# Altium footprint library Sangjian_Pcb.PcbLib: 434 footprints (part 9 of 28)
Each footprint in its own frame and in the unit in brackets; x right, y up, seen from the top. Pads: shape width x height; smd on the part's side, far side on the other; paste and mask are expansions set on the pad; w line width, h text height; cw(c..) or ccw(c..) is an arc to the next point about the centre after c.
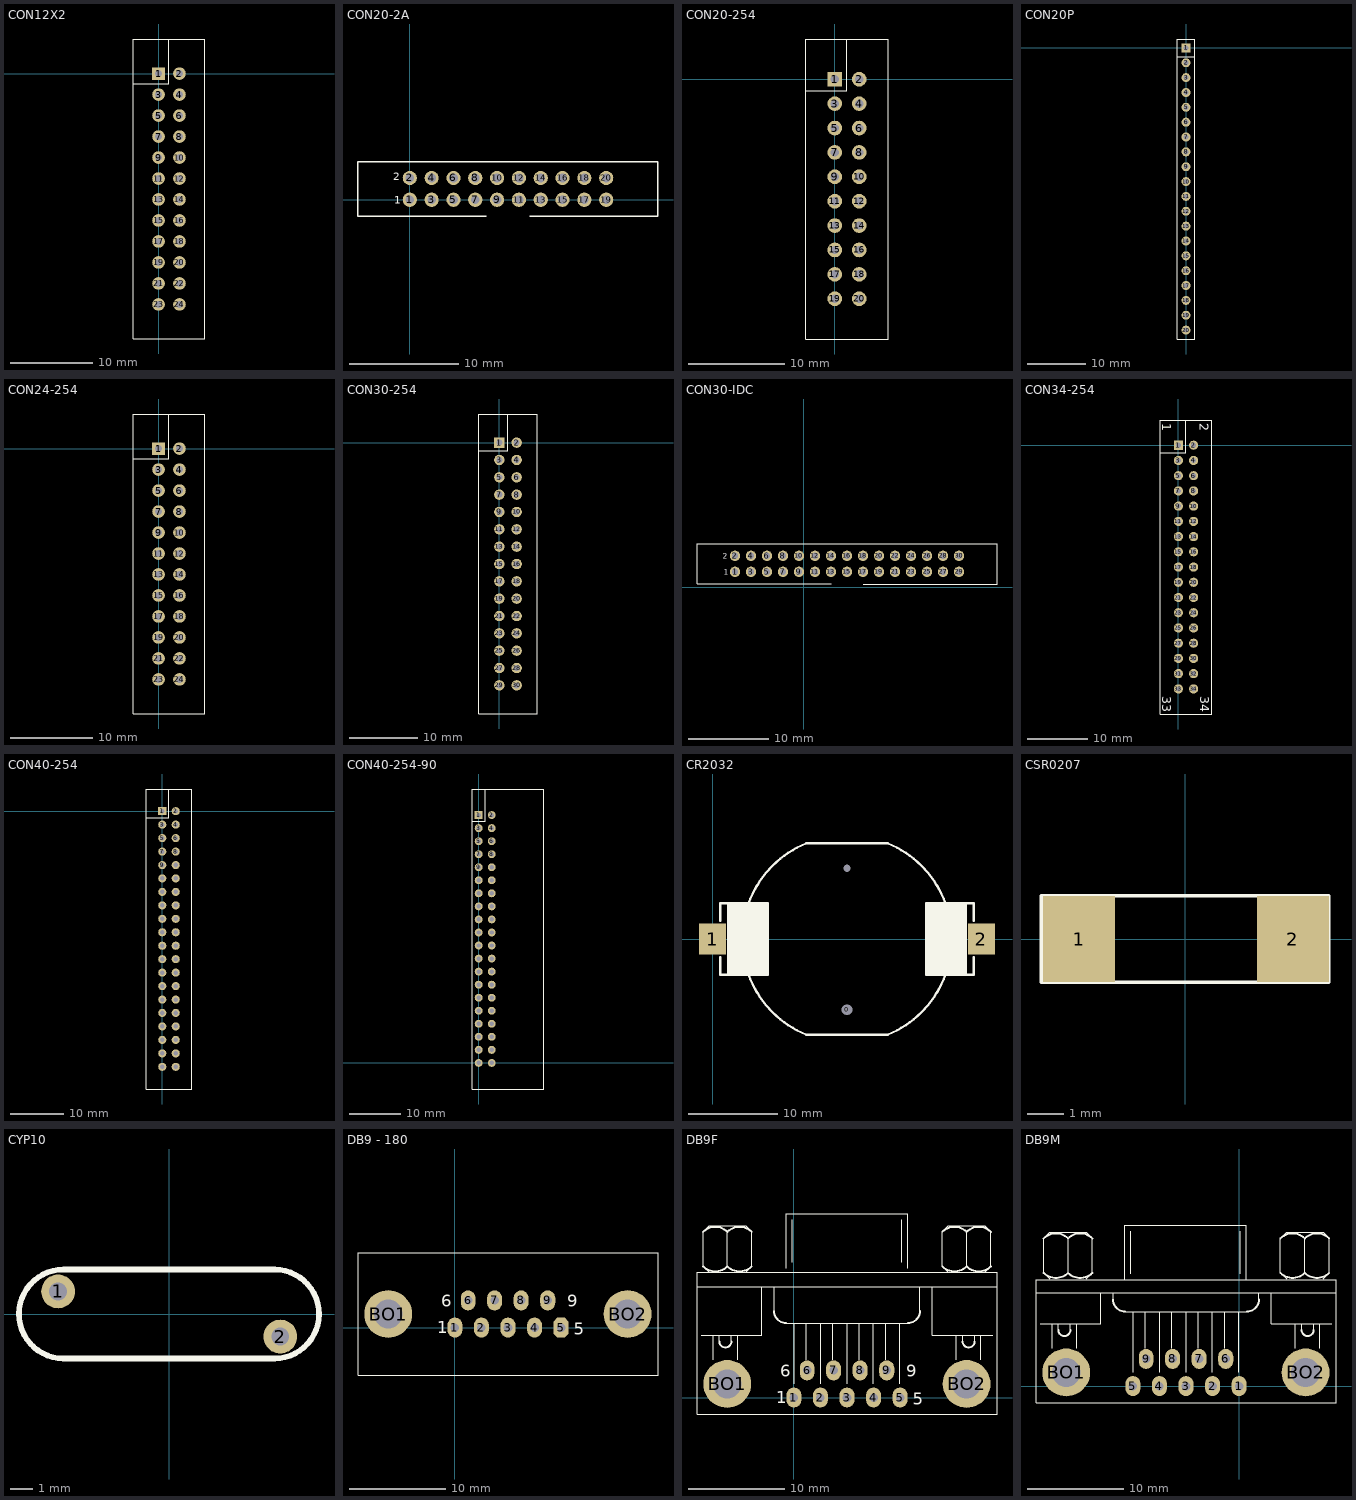
[diagram p8: the footprints below, top view; thin cyan lines are the x and y axes]

## CON12X2 [mil]
pads (24):
  rect 60x60 hole 34: 1(0,0)
  round 60 hole 34: 2(100,0) 3(0,-100) 4(100,-100) 5(0,-200) 6(100,-200) 7(0,-300) 8(100,-300) 9(0,-400) 10(100,-400) 11(0,-500) 12(100,-500) 13(0,-600) 14(100,-600) 15(0,-700) 16(100,-700) 17(0,-800) 18(100,-800) 19(0,-900) 20(100,-900) 21(0,-1000) 22(100,-1000) 23(0,-1100) 24(100,-1100)
Top Overlay:
  lines w5: -120,-48 49,-48 49,163 ; -120,-1265 -120,165 220,165 220,-1265 -120,-1265

## CON20-2A [mm]
pads (20):
  round 1.3 hole 0.8: 1(0,0) 2(0,2) 3(2,0) 4(2,2) 5(4,0) 6(4,2) 7(6,0) 8(6,2) 9(8,0) 10(8,2) 11(10,0) 12(10,2) 13(12,0) 14(12,2) 15(14,0) 16(14,2) 17(16,0) 18(16,2) 19(18,0) 20(18,2)
Top Overlay:
  lines w0.127: 7,-1.5 -4.75,-1.5 -4.75,3.5 22.75,3.5 22.75,-1.525 11,-1.525
  text "2" at -1.539,1.784 h0.7
  text "1" at -1.412,-0.375 h0.7

## CON20-254 [mil]
pads (20):
  rect 60x60 hole 34: 1(0,0)
  round 60 hole 34: 2(100,0) 3(0,-100) 4(100,-100) 5(0,-200) 6(100,-200) 7(0,-300) 8(100,-300) 9(0,-400) 10(100,-400) 11(0,-500) 12(100,-500) 13(0,-600) 14(100,-600) 15(0,-700) 16(100,-700) 17(0,-800) 18(100,-800) 19(0,-900) 20(100,-900)
Top Overlay:
  lines w5: -120,-48 49,-48 49,163 ; -120,-1065 -120,165 220,165 220,-1065 -120,-1065

## CON20P [mil]
pads (20):
  rect 60x60 hole 34: 1(0,0)
  round 60 hole 34: 2(0,-100) 3(0,-200) 4(0,-300) 5(0,-400) 6(0,-500) 7(0,-600) 8(0,-700) 9(0,-800) 10(0,-900) 11(0,-1000) 12(0,-1100) 13(0,-1200) 14(0,-1300) 15(0,-1400) 16(0,-1500) 17(0,-1600) 18(0,-1700) 19(0,-1800) 20(0,-1900)
Top Overlay:
  lines w5: -60,-60 60,-60 ; -60,-1960 60,-1960 60,60 -60,60 -60,-1960

## CON24-254 [mil]
pads (24):
  rect 60x60 hole 34: 1(0,0)
  round 60 hole 34: 2(100,0) 3(0,-100) 4(100,-100) 5(0,-200) 6(100,-200) 7(0,-300) 8(100,-300) 9(0,-400) 10(100,-400) 11(0,-500) 12(100,-500) 13(0,-600) 14(100,-600) 15(0,-700) 16(100,-700) 17(0,-800) 18(100,-800) 19(0,-900) 20(100,-900) 21(0,-1000) 22(100,-1000) 23(0,-1100) 24(100,-1100)
Top Overlay:
  lines w5: -120,-48 49,-48 49,163 ; -120,-1265 220,-1265 220,165 -120,165 -120,-1265

## CON30-254 [mil]
pads (30):
  rect 60x60 hole 34: 1(0,0)
  round 60 hole 34: 2(100,0) 3(0,-100) 4(100,-100) 5(0,-200) 6(100,-200) 7(0,-300) 8(100,-300) 9(0,-400) 10(100,-400) 11(0,-500) 12(100,-500) 13(0,-600) 14(100,-600) 15(0,-700) 16(100,-700) 17(0,-800) 18(100,-800) 19(0,-900) 20(100,-900) 21(0,-1000) 22(100,-1000) 23(0,-1100) 24(100,-1100) 25(0,-1200) 26(100,-1200) 27(0,-1300) 28(100,-1300) 29(0,-1400) 30(100,-1400)
Top Overlay:
  lines w5: -120,-48 49,-48 49,163 ; -120,-1565 220,-1565 220,165 -120,165 -120,-1565

## CON30-IDC [mm]
pads (30):
  round 1.3 hole 0.8: 1(-8.621,1.899) 2(-8.621,3.899) 3(-6.621,1.899) 4(-6.621,3.899) 5(-4.621,1.899) 6(-4.621,3.899) 7(-2.621,1.899) 8(-2.621,3.899) 9(-0.621,1.899) 10(-0.621,3.899) 11(1.379,1.899) 12(1.379,3.899) 13(3.379,1.899) 14(3.379,3.899) 15(5.379,1.899) 16(5.379,3.899) 17(7.379,1.899) 18(7.379,3.899) 19(9.379,1.899) 20(9.379,3.899) 21(11.379,1.899) 22(11.379,3.899) 23(13.379,1.899) 24(13.379,3.899) 25(15.379,1.899) 26(15.379,3.899) 27(17.379,1.899) 28(17.379,3.899) 29(19.379,1.899) 30(19.379,3.899)
Top Overlay:
  lines w0.127: 3.379,0.399 -13.371,0.399 -13.371,5.399 24.129,5.399 24.129,0.374 7.379,0.374
  text "2" at -10.16,3.556 h0.7
  text "1" at -10.033,1.524 h0.7

## CON34-254 [mil]
pads (34):
  rect 60x60 hole 34: 1(0,0)
  round 60 hole 34: 2(100,0) 3(0,-100) 4(100,-100) 5(0,-200) 6(100,-200) 7(0,-300) 8(100,-300) 9(0,-400) 10(100,-400) 11(0,-500) 12(100,-500) 13(0,-600) 14(100,-600) 15(0,-700) 16(100,-700) 17(0,-800) 18(100,-800) 19(0,-900) 20(100,-900) 21(0,-1000) 22(100,-1000) 23(0,-1100) 24(100,-1100) 25(0,-1200) 26(100,-1200) 27(0,-1300) 28(100,-1300) 29(0,-1400) 30(100,-1400) 31(0,-1500) 32(100,-1500) 33(0,-1600) 34(100,-1600)
Top Overlay:
  lines w5: -120,-48 49,-48 49,163 ; -120,-1765 220,-1765 220,-1565 220,165 -120,165 -120,-1565 -120,-1765
  text "2" at 140,145 h60
  text "34" at 145,-1650 h60
  text "33" at -105,-1650 h60
  text "1" at -105,145 h60

## CON40-254 [mil]
pads (40):
  rect 60x60 hole 34: 1(0,0)
  round 60 hole 34: 2(100,0) 3(0,-100) 4(100,-100) 5(0,-200) 6(100,-200) 7(0,-300) 8(100,-300) 9(0,-400) 10(100,-400) 11(0,-500) 12(100,-500) 13(0,-600) 14(100,-600) 15(0,-700) 16(100,-700) 17(0,-800) 18(100,-800) 19(0,-900) 20(100,-900) 21(0,-1000) 22(100,-1000) 23(0,-1100) 24(100,-1100) 25(0,-1200) 26(100,-1200) 27(0,-1300) 28(100,-1300) 29(0,-1400) 30(100,-1400) 31(0,-1500) 32(100,-1500) 33(0,-1600) 34(100,-1600) 35(0,-1700) 36(100,-1700) 37(0,-1800) 38(100,-1800) 39(0,-1900) 40(100,-1900)
Top Overlay:
  lines w5: -120,-48 49,-48 49,163 ; -120,-2065 220,-2065 220,165 -120,165 -120,-2065

## CON40-254-90 [mil]
pads (40):
  rect 60x60 hole 34: 1(0,1900)
  round 60 hole 34: 2(100,1900) 3(0,1800) 4(100,1800) 5(0,1700) 6(100,1700) 7(0,1600) 8(100,1600) 9(0,1500) 10(100,1500) 11(0,1400) 12(100,1400) 13(0,1300) 14(100,1300) 15(0,1200) 16(100,1200) 17(0,1100) 18(100,1100) 19(0,1000) 20(100,1000) 21(0,900) 22(100,900) 23(0,800) 24(100,800) 25(0,700) 26(100,700) 27(0,600) 28(100,600) 29(0,500) 30(100,500) 31(0,400) 32(100,400) 33(0,300) 34(100,300) 35(0,200) 36(100,200) 37(0,100) 38(100,100) 39(0,0) 40(100,0)
Top Overlay:
  lines w5: -50,1852 49,1852 49,2099.41 ; -50,-200 500,-200 500,2100 -50,2100 -50,-200

## CR2032 [mm]
pads (4):
  round 1 hole 1.2: 0(15,-7.9)
  round 0.5 hole 0.8: 0(15,7.9)
  rect 3x3.5 smd: 1(0,0) 2(30,0)
Top Overlay:
  rectangle: 1.589,-4.064 6.135,4
  rectangle: 23.865,-4.039 28.411,4
  lines w0.254: 0.85,-2 0.85,-4 4,-4 ; 0.85,2 0.85,4 4,4 ; 29.15,-2 29.15,-4 26,-4 ; 29.15,2 29.15,4 26,4 ; 4,-4 ccw(c14.891,0.05) 10.43,-10.679 19.57,-10.68 ccw(c15.109,0.05) 26,-4 ; 4,-4 6.135,-4 6.135,4 4,4 ; 4,4 cw(c14.891,-0.05) 10.43,10.679 19.57,10.68 cw(c15.109,-0.05) 26,4 ; 26,-4 23.865,-4 23.865,4 26,4

## CSR0207 [mm]
pads (2):
  rect 2x2.4 smd: 1(-2.946,0) 2(2.997,0)
Top Overlay:
  lines w0.1: -4,-1.2 4,-1.2 4,1.2 -4,1.2 -4,-1.2

## CYP10 [mil]
pads (2):
  round 60 hole 31.5: 1(-196.85,40) 2(196.85,-40)
Top Overlay:
  lines w10: -187.58,-78.74 cw(c-187.42,0) -186.85,78.74 186.85,78.74 cw(c186.69,0) 186.12,-78.74 ; -186.85,-78.74 186.85,-78.74

## DB9 - 180 [mil]
pads (11):
  oval 62x82 hole 35: 1(0,0) 2(109.17,0) 3(218.33,0) 4(327.5,0) 7(163.33,111.67) 8(272.5,111.67) 9(381.67,111.67)
  oct 62x82 hole 35: 5(436.67,0)
  oval 60x82 hole 35: 6(54.17,111.67)
  round 196.67 hole 118.33: BO1(-274.17,55.83) BO2(710,55.83)
Top Overlay:
  lines w5: -398.33,-196.14 -398.33,307.8 835,307.8 835,-196.14 -398.33,-196.14
  text "9" at 462.92,85.83 h50
  text "5" at 487.92,-29.17 h50
  text "1" at -72.08,-24.17 h50
  text "6" at -57.08,85.83 h50

## DB9F [mil]
pads (11):
  oval 62x82 hole 35: 1(0,0) 2(109.17,0) 3(218.33,0) 4(327.5,0) 5(436.67,0) 7(163.33,111.67) 8(272.5,111.67) 9(381.67,111.67)
  oval 60x82 hole 35: 6(54.17,111.67)
  round 196.67 hole 118.33: BO1(-274.17,55.83) BO2(710,55.83)
Top Overlay:
  lines w5: -398.33,455.83 835,455.83 ; -381.67,255.83 -131.67,255.83 -131.67,455.83 ; -348.33,514.17 -373.33,539.17 -373.33,680.83 -348.33,705.83 -198.33,705.83 -173.33,680.83 -173.33,539.17 -198.33,514.17 ; -331.67,155.83 -331.67,255.83 ; -306.67,230.83 -306.67,255.83 ; -273.33,539.17 -273.33,680.83 ; -256.67,230.83 -256.67,255.83 ; -231.67,155.83 -231.67,255.83 ; -81.67,355.83 -81.67,455.83 ; -31.67,305.83 468.33,305.83 ; -31.67,530.83 -31.67,755.83 468.33,755.83 468.33,530.83 ; -6.67,555.83 -6.67,730.83 ; 1.67,55.83 1.67,305.83 ; 51.67,155.83 51.67,305.83 ; 110,55.83 110,305.83 ; 160,155.83 160,305.83 ; 218.33,55.83 218.33,305.83 ; 268.33,155.83 268.33,305.83 ; 326.67,55.83 326.67,305.83 ; 376.67,155.83 376.67,305.83 ; 435,55.83 435,305.83 ; 443.33,555.83 443.33,730.83 ; 518.33,355.83 518.33,455.83 ; 568.33,455.83 568.33,255.83 818.33,255.83 ; 635,514.17 610,539.17 610,680.83 635,705.83 785,705.83 810,680.83 810,539.17 785,514.17 ; 668.33,155.83 668.33,255.83 ; 693.33,230.83 693.33,255.83 ; 710,539.17 710,680.83 ; 743.33,230.83 743.33,255.83 ; 768.33,155.83 768.33,255.83 ; -398.33,-69.17 -398.33,514.17 835,514.17 835,-69.17 -398.33,-69.17
  lines w8: -373.42,539.08 ccw(c-323.33,589.17) -273.25,539.08 ; -373.42,680.92 cw(c-323.33,630.83) -273.25,680.92 ; -306.67,230.83 ccw(c-281.67,230.83) -256.67,230.83 ; -273.42,539.08 ccw(c-223.33,589.17) -173.25,539.08 ; -273.42,680.92 cw(c-223.33,630.83) -173.25,680.92 ; -81.67,355.83 ccw(c-31.67,355.83) -31.67,305.83 ; 468.33,305.83 ccw(c468.33,355.83) 518.33,355.83 ; 609.91,539.08 ccw(c660,589.17) 710.09,539.08 ; 609.91,680.92 cw(c660,630.83) 710.09,680.92 ; 693.33,230.83 ccw(c718.33,230.83) 743.33,230.83 ; 709.91,539.08 ccw(c760,589.17) 810.09,539.08 ; 709.91,680.92 cw(c760,630.83) 810.09,680.92
  text "9" at 462.92,85.83 h50
  text "5" at 487.92,-29.17 h50
  text "1" at -72.08,-24.17 h50
  text "6" at -57.08,85.83 h50

## DB9M [mil]
pads (11):
  oval 62x82 hole 35: 1(0,0) 2(-109.17,0) 3(-218.33,0) 4(-327.5,0) 5(-436.67,0) 6(-55,111.67) 7(-164.17,111.67) 8(-273.33,111.67)
  oval 60x82 hole 35: 9(-382.5,111.67)
  round 196.67 hole 118.33: BO1(-710.83,55.83) BO2(273.33,55.83)
Top Overlay:
  lines w5: -835,384.3 398.33,384.3 ; -818.33,255.83 -568.33,255.83 -568.33,384.3 ; -778.28,440.1 -803.28,465.1 -803.28,606.77 -778.28,631.77 -628.28,631.77 -603.28,606.77 -603.28,465.1 -628.28,440.1 ; -768.33,155.83 -768.33,255.83 ; -743.33,230.83 -743.33,255.83 ; -703.28,465.1 -703.28,606.77 ; -693.33,230.83 -693.33,255.83 ; -668.33,155.83 -668.33,255.83 ; -518.33,355.83 -518.33,384.3 ; -471.08,436.47 -471.08,661.47 28.92,661.47 28.92,436.47 ; -468.33,305.83 31.67,305.83 ; -446.08,461.47 -446.08,636.47 ; -435,55.83 -435,305.83 ; -385,155.83 -385,305.83 ; -326.67,55.83 -326.67,305.83 ; -276.67,155.83 -276.67,305.83 ; -218.33,55.83 -218.33,305.83 ; -168.33,155.83 -168.33,305.83 ; -110,55.83 -110,305.83 ; -60,155.83 -60,305.83 ; -1.67,55.83 -1.67,305.83 ; 3.92,461.47 3.92,636.47 ; 81.67,355.83 81.67,383.86 ; 131.67,383.86 131.67,255.83 381.67,255.83 ; 194.97,440.1 169.97,465.1 169.97,606.77 194.97,631.77 344.97,631.77 369.97,606.77 369.97,465.1 344.97,440.1 ; 231.67,155.83 231.67,255.83 ; 256.67,230.83 256.67,255.83 ; 269.97,465.1 269.97,606.77 ; 306.67,230.83 306.67,255.83 ; 331.67,155.83 331.67,255.83 ; -835,-69.17 -835,436.47 398.33,436.47 398.33,-69.17 -835,-69.17
  lines w8: -803.37,465.01 ccw(c-753.28,515.1) -703.19,465.01 ; -803.37,606.85 cw(c-753.28,556.77) -703.19,606.85 ; -743.33,230.83 ccw(c-718.33,230.83) -693.33,230.83 ; -703.37,465.01 ccw(c-653.28,515.1) -603.19,465.01 ; -703.37,606.85 cw(c-653.28,556.77) -603.19,606.85 ; -518.33,355.83 ccw(c-468.33,355.83) -468.33,305.83 ; 31.67,305.83 ccw(c31.67,355.83) 81.67,355.83 ; 169.89,465.01 ccw(c219.97,515.1) 270.06,465.01 ; 169.89,606.85 cw(c219.97,556.77) 270.06,606.85 ; 256.67,230.83 ccw(c281.67,230.83) 306.67,230.83 ; 269.89,465.01 ccw(c319.97,515.1) 370.06,465.01 ; 269.89,606.85 cw(c319.97,556.77) 370.06,606.85